# EAGLE library part B6P-VH (library con-JST VH)
JST VH Series header 3.96mm pitch disconnectable crimp style connectors, vertical (side entry type), 6 pins
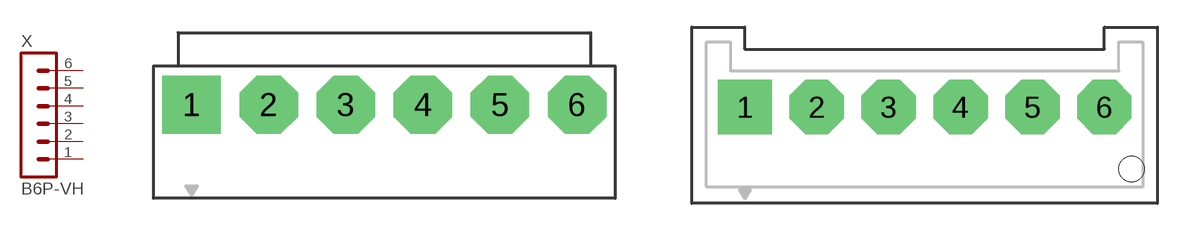
[diagram p0: symbol with the pads of B6P-VH; footprints B6P-VH, B6P-VH-FB-B]

Designator prefix X

## B6P-VH  [B6P-VH]
1  1  pas
2  2  pas
3  3  pas
4  4  pas
5  5  pas
6  6  pas

## B6P-VH-B  [B6P-VH]
Pads as for B6P-VH

## B6P-VH-FB-B  [B6P-VH-FB-B]
Pads as for B6P-VH

## Footprint B6P-VH (pad centres in mm)
JST VH Series header 3.96mm pitch disconnectable crimp style connectors, vertical (top entry type), 6 pins
drill 1.7 pad 3 square: 1 -9.9,0
drill 1.7 pad 3 octagon: 2 -5.94,0; 3 -1.98,0; 4 1.98,0; 5 5.94,0; 6 9.9,0

## Footprint B6P-VH-FB-B (pad centres in mm)
JST VH Series header 3.96mm pitch disconnectable crimp style connectors, vertical (top entry type), 6 pins
drill 1.7 pad 3 square: 1 -9.9,0
drill 1.7 pad 3 octagon: 2 -5.94,0; 3 -1.98,0; 4 1.98,0; 5 5.94,0; 6 9.9,0
hole 1.4 at 11.4,-3.4